# EAGLE library part 80C88 (library IC)
80C88 Microprocessor
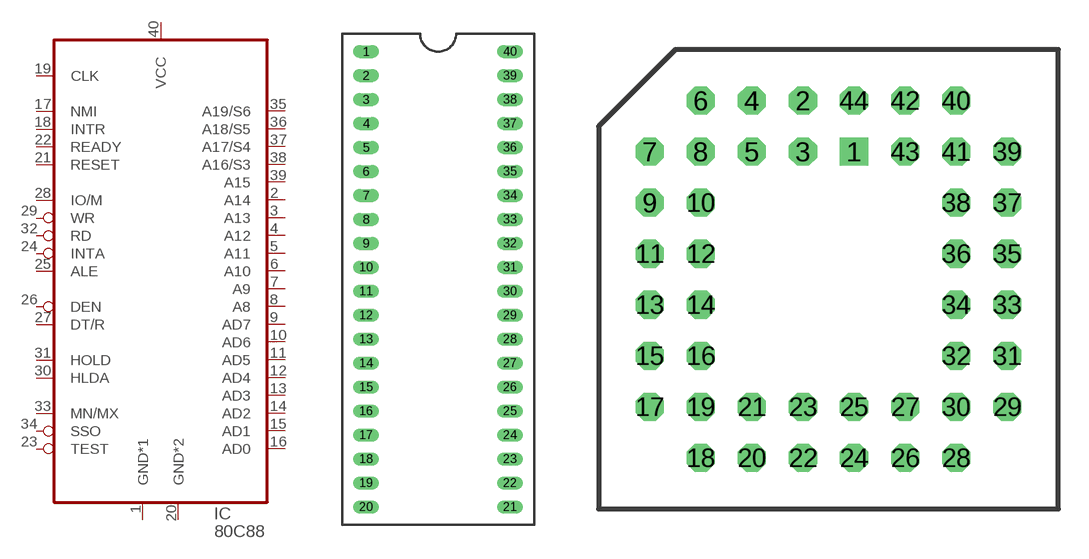
[diagram p21: symbol with the pads of DIP-40; footprints DIP-40, PLCC-44T]

Designator prefix IC

## 80C88P  [DIP-40]
1  GND*1  pwr
2  A14
3  A13
4  A12
5  A11
6  A10
7  A9
8  A8
9  AD7
10  AD6
11  AD5
12  AD4
13  AD3
14  AD2
15  AD1
16  AD0
17  NMI  in
18  INTR  in
19  CLK  in
20  GND*2  pwr
21  RESET  in
22  READY  in
23  TEST  in
24  INTA  out
25  ALE  out
26  DEN  out
27  DT/R  out
28  IO/M  out
29  WR  out
30  HLDA  out
31  HOLD
32  RD  out
33  MN/MX  in
34  SSO  out
35  A19/S6
36  A18/S5
37  A17/S4
38  A16/S3
39  A15
40  VCC  pwr

## 80C88S  [PLCC-44T]
2  GND*1  pwr
3  A14
4  A13
5  A12
6  A11
7  A10
8  A9
9  A8
10  AD7
11  AD6
12  AD5
13  AD4
14  AD3
15  AD2
16  AD1
17  AD0
19  NMI  in
20  INTR  in
21  CLK  in
22  GND*2  pwr
24  RESET  in
25  READY  in
26  TEST  in
27  INTA  out
28  ALE  out
29  DEN  out
30  DT/R  out
31  IO/M  out
32  WR  out
33  HLDA  out
34  HOLD
35  RD  out
36  MN/MX  in
37  SSO  out
38  A19/S6
40  A18/S5
41  A17/S4
42  A16/S3
43  A15
44  VCC  pwr

## Footprint DIP-40 (pad centres in mm)
drill 0.889 long: 1 -7.62,24.13; 2 -7.62,21.59; 3 -7.62,19.05; 4 -7.62,16.51; 5 -7.62,13.97; 6 -7.62,11.43; 7 -7.62,8.89; 8 -7.62,6.35; 9 -7.62,3.81; 10 -7.62,1.27; 11 -7.62,-1.27; 12 -7.62,-3.81; 13 -7.62,-6.35; 14 -7.62,-8.89; 15 -7.62,-11.43; 16 -7.62,-13.97; 17 -7.62,-16.51; 18 -7.62,-19.05; 19 -7.62,-21.59; 20 -7.62,-24.13; 21 7.62,-24.13; 22 7.62,-21.59; 23 7.62,-19.05; 24 7.62,-16.51; 25 7.62,-13.97; 26 7.62,-11.43; 27 7.62,-8.89; 28 7.62,-6.35; 29 7.62,-3.81; 30 7.62,-1.27; 31 7.62,1.27; 32 7.62,3.81; 33 7.62,6.35; 34 7.62,8.89; 35 7.62,11.43; 36 7.62,13.97; 37 7.62,16.51; 38 7.62,19.05; 39 7.62,21.59; 40 7.62,24.13

## Footprint PLCC-44T (pad centres in mm)
drill 0.889 square: 1 1.27,6.35
drill 0.889 octagon: 2 -1.27,8.89; 3 -1.27,6.35; 4 -3.81,8.89; 5 -3.81,6.35; 6 -6.35,8.89; 7 -8.89,6.35; 8 -6.35,6.35; 9 -8.89,3.81; 10 -6.35,3.81; 11 -8.89,1.27; 12 -6.35,1.27; 13 -8.89,-1.27; 14 -6.35,-1.27; 15 -8.89,-3.81; 16 -6.35,-3.81; 17 -8.89,-6.35; 18 -6.35,-8.89; 19 -6.35,-6.35; 20 -3.81,-8.89; 21 -3.81,-6.35; 22 -1.27,-8.89; 23 -1.27,-6.35; 24 1.27,-8.89; 25 1.27,-6.35; 26 3.81,-8.89; 27 3.81,-6.35; 28 6.35,-8.89; 29 8.89,-6.35; 30 6.35,-6.35; 31 8.89,-3.81; 32 6.35,-3.81; 33 8.89,-1.27; 34 6.35,-1.27; 35 8.89,1.27; 36 6.35,1.27; 37 8.89,3.81; 38 6.35,3.81; 39 8.89,6.35; 40 6.35,8.89; 41 6.35,6.35; 42 3.81,8.89; 43 3.81,6.35; 44 1.27,8.89